# EAGLE library part THRU-HOLE1 (library dec-con)
Thru-Hole addition to single-sided edge connector.
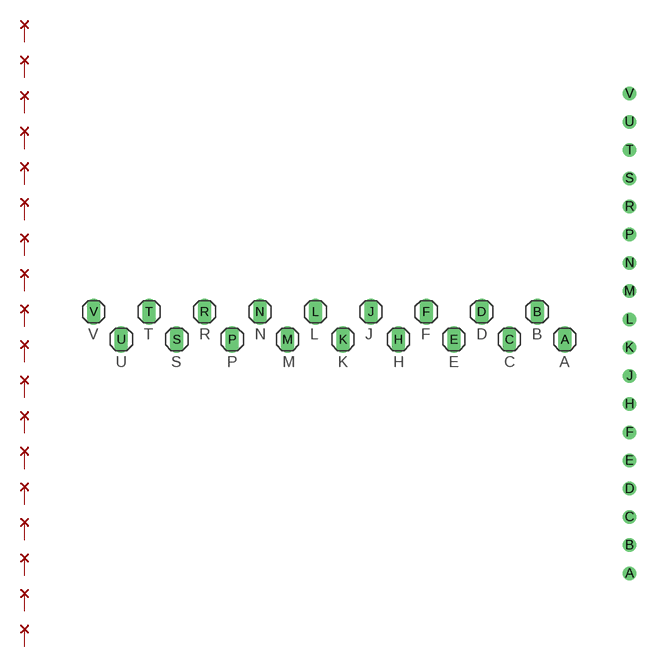
[diagram p23: symbol with the pads of THRU-HOLE1; footprints THRU-HOLE1, THRU-HOLE1A]

Designator prefix -; gates K2=THRU-HOLE-PAD J2=THRU-HOLE-PAD H2=THRU-HOLE-PAD L2=THRU-HOLE-PAD M2=THRU-HOLE-PAD N2=THRU-HOLE-PAD P2=THRU-HOLE-PAD F2=THRU-HOLE-PAD E2=THRU-HOLE-PAD D2=THRU-HOLE-PAD C2=THRU-HOLE-PAD R2=THRU-HOLE-PAD S2=THRU-HOLE-PAD B2=THRU-HOLE-PAD A2=THRU-HOLE-PAD T2=THRU-HOLE-PAD U2=THRU-HOLE-PAD V2=THRU-HOLE-PAD

## THRU-HOLE1  [THRU-HOLE1]
A  A2:P$1  pas
B  B2:P$1  pas
C  C2:P$1  pas
D  D2:P$1  pas
E  E2:P$1  pas
F  F2:P$1  pas
H  H2:P$1  pas
J  J2:P$1  pas
K  K2:P$1  pas
L  L2:P$1  pas
M  M2:P$1  pas
N  N2:P$1  pas
P  P2:P$1  pas
R  R2:P$1  pas
S  S2:P$1  pas
T  T2:P$1  pas
U  U2:P$1  pas
V  V2:P$1  pas

## THRU-HOLE1A  [THRU-HOLE1A]
Pads as for THRU-HOLE1

## Footprint THRU-HOLE1 (pad centres in mm)
PIN HEADER (.125")
drill 1.016 long: A 28.575,3.175; B 25.4,6.35; C 22.225,3.175; D 19.05,6.35; E 15.875,3.175; F 12.7,6.35; H 9.525,3.175; J 6.35,6.35; K 3.175,3.175; L 0,6.35; M -3.175,3.175; N -6.35,6.35; P -9.525,3.175; R -12.7,6.35; S -15.875,3.175; T -19.05,6.35; U -22.225,3.175; V -25.4,6.35

## Footprint THRU-HOLE1A (pad centres in mm)
Row of 18 on .125" centers
drill 1.016 pad 1.27: A 0,-28.575; B 0,-25.4; C 0,-22.225; D 0,-19.05; E 0,-15.875; F 0,-12.7; H 0,-9.525; J 0,-6.35; K 0,-3.175; L 0,0; M 0,3.175; N 0,6.35; P 0,9.525; R 0,12.7; S 0,15.875; T 0,19.05; U 0,22.225; V 0,25.4